# Altium schematic symbol library LTC2902.SchLib: 1 symbol
Pins are listed as number, name and electrical type; pins without a type are passive.

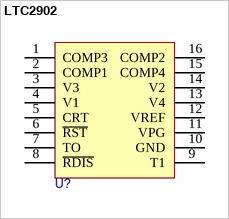
[diagram p0: symbol LTC2902]

## LTC2902
designator U?
pins: 1 COMP3, 2 COMP1, 3 V3, 4 V1, 5 CRT, 6 ~{RST}, 7 TO, 8 ~{RDIS}, 9 T1, 10 GND, 11 VPG, 12 VREF, 13 V4, 14 V2, 15 COMP4, 16 COMP2